# Altium footprint library 48258-0002.PcbLib: 1 footprints
Each footprint in its own frame and in the unit in brackets; x right, y up, seen from the top. Pads: shape width x height; smd on the part's side, far side on the other; paste and mask are expansions set on the pad; w line width, h text height; cw(c..) or ccw(c..) is an arc to the next point about the centre after c.
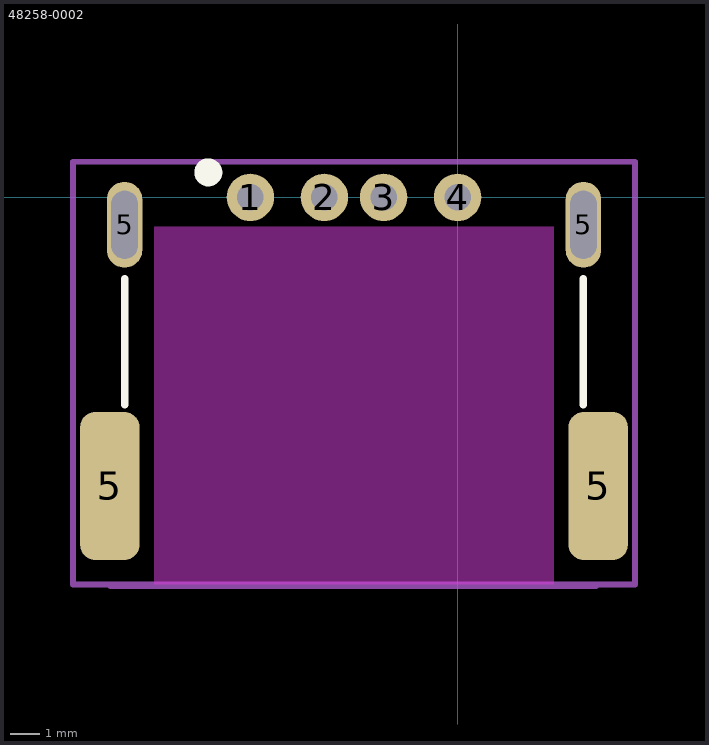
[diagram p0: the footprint, top view; thin cyan lines are the x and y axes]

## 48258-0002 [mm] "USB A Midmount THT"
pads (8):
  round 1.6 hole 0.9: 1(-7,0) 2(-4.5,0) 3(-2.5,0) 4(0,0)
  rrect50% 2x5 smd mask+0: 5(-11.75,-9.75) 5(4.75,-9.75)
  oval 1.2x2.9 hole 2.3 slot 0.9 at 0 deg: 5(-11.25,-0.925) 5(4.25,-0.925)
Top Overlay:
  circle w0.5: c-8.424,0.845 r0.224
  lines w0.254: -11.25,-7 -11.25,-2.75 ; 4.25,-7 4.25,-2.75
Keep-Out Layer:
  board cut-out: -10.25,-1 3.25,-1 3.25,-13.075 -10.25,-13.075
Mechanical 14:
  lines w0.2: -13,-13.075 -13,1.205 6,1.205 6,-13.075 -13,-13.075
Mechanical 15:
  lines w0.2: -11.725,-13.139 4.675,-13.139
  text "PCB Edge" at -5.5,-13.089 h1
3D body "482580002.stp": height 4.27, standoff -2.63, extent -12.1,-13.075 5,0.925